# EAGLE library part KK_HEADER_10V_KEN (library EW_Connectors)
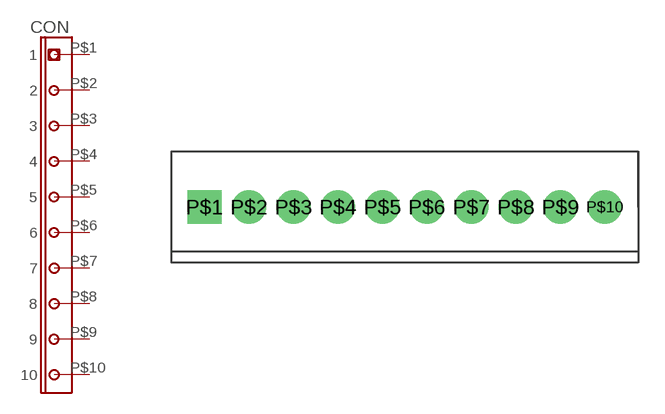
[diagram p25: symbol with the pads of KK_HEADER_10V_KEN; footprint KK_HEADER_10V_KEN]

Designator prefix CON

## KK_HEADER_10V_KEN  [KK_HEADER_10V_KEN]
P$1  1
P$2  2
P$3  3
P$4  4
P$5  5
P$6  6
P$7  7
P$8  8
P$9  9
P$10  10

## Footprint KK_HEADER_10V_KEN (pad centres in mm)
drill 1.2 pad 1.93 square: P$1 -11.43,0
drill 1.2 pad 1.93: P$2 -8.89,0; P$3 -6.35,0; P$4 -3.81,0; P$5 -1.27,0; P$6 1.27,0; P$7 3.81,0; P$8 6.35,0; P$9 8.89,0; P$10 11.43,0